# Altium schematic symbol library Term,Header,2 Pin,Top,5.08mm.Schlib: 1 symbol
Pins are listed as number, name and electrical type; pins without a type are passive.

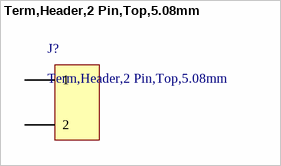
[diagram p0: symbol Term,Header,2 Pin,Top,5.08mm]

## Term,Header,2 Pin,Top,5.08mm
designator J?
Connector Header Through Hole 2 position 0.200" (5.08mm)
pins: 1, 2